# EAGLE library part OPTOCOUPLER_MOCD20*M (library MotorBoardDev)
MOCD207M, MOCD208M Dual Channel Phototransistor Small Outline Surface Mount Optocouplers Source: Data sheet <http://www.fairchildsemi.com/ds/MO%2FMOCD207-M.pdf>
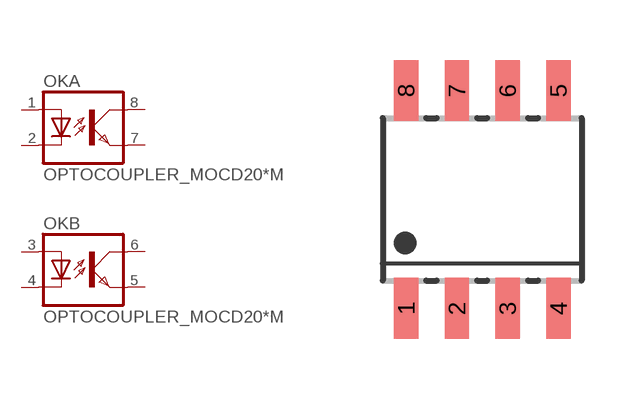
[diagram p11: symbol with the pads of OPTOCOUPLER_SOIC08-FAIRCHILD; footprint OPTOCOUPLER_SOIC08-FAIRCHILD]

Designator prefix OK; gates A=OPTOCOUPLER_OK B=OPTOCOUPLER_OK

## OPTOCOUPLER_MOCD20M, OPTOCOUPLER_MOCD207M (MF: FAIRCHILD SEMICONDUCTOR; MPN: MOCD207-M; OC_FARNELL: 1623297; OC_NEWARK: 67K0803), OPTOCOUPLER_MOCD208M (MF: FAIRCHILD SEMICONDUCTOR; MPN: MOCD208M; OC_FARNELL: 1505465; OC_NEWARK: 34C7498)  [OPTOCOUPLER_SOIC08-FAIRCHILD]
1  A:A  pas
2  A:C  pas
3  B:A  pas
4  B:C  pas
5  B:EMIT  pas
6  B:COL  pas
7  A:EMIT  pas
8  A:COL  pas

## Footprint OPTOCOUPLER_SOIC08-FAIRCHILD (pad centres in mm)
8-pin SOIC Surface Mount high = 3.13 - 3.63mm Source: Data sheet <http://www.fairchildsemi.com/ds/MO%2FMOCD207-M.pdf>
smd 0.61 x 1.52: 1 -1.905,-2.723; 2 -0.635,-2.723; 3 0.635,-2.723; 4 1.905,-2.723; 5 1.905,2.723; 6 0.635,2.723; 7 -0.635,2.723; 8 -1.905,2.723